# EAGLE library part 736-316 (library con-wago_736)
Serie 736, Doppelstock-Klemmenleiste für Leiterplatten 2 Lötstifte in Reihe / Series 736, Double-deck PCB terminal strip 2 solder pins, in line Polzahl / Pole No.: 16 Rastermaß / Pitch: 5.08 mm Bemessungsspannung / Rated Voltage: 320 V Nennstrom / Nominal Current: 21 A Leiterquerschnitt / Conductor Size: 0.08 - 2.5 mm² Anschlusstechnik / Connection Technology: CAGE CLAMP® Lötstiftlänge: / Solder Pin Length: 4 mm Leitereinführung (zur Platine) / Conductor entry angle (to PCB): 45 ° Farbe / Color: orange / orange Stand: 01.01.2012. Die jeweils aktuellen Daten zu diesem Artikel finden Sie in unserem Produktkatalog, den Sie unter www.wago.com einsehen können. As of: 01/01/2012. Please find the newest data for this article in our product catalogue, which can be viewed under www.wago.com.
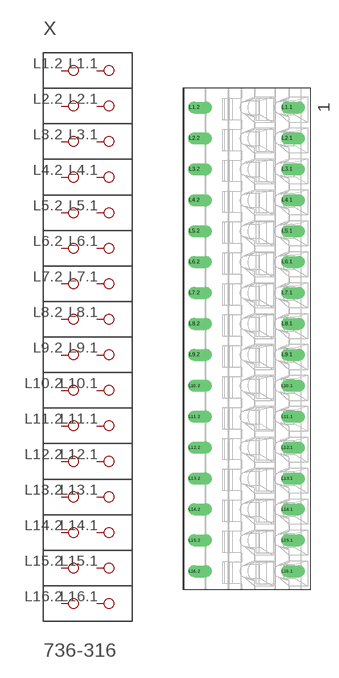
[diagram p41: symbol with the pads of P-736-316; footprint P-736-316]

Designator prefix X

## 736-316  [P-736-316]
L1.1  P1.1
L1.2  P1.2
L2.1  P2.1
L2.2  P2.2
L3.1  P3.1
L3.2  P3.2
L4.1  P4.1
L4.2  P4.2
L5.1  P5.1
L5.2  P5.2
L6.1  P6.1
L6.2  P6.2
L7.1  P7.1
L7.2  P7.2
L8.1  P8.1
L8.2  P8.2
L9.1  P9.1
L9.2  P9.2
L10.1  P10.1
L10.2  P10.2
L11.1  P11.1
L11.2  P11.2
L12.1  P12.1
L12.2  P12.2
L13.1  P13.1
L13.2  P13.2
L14.1  P14.1
L14.2  P14.2
L15.1  P15.1
L15.2  P15.2
L16.1  P16.1
L16.2  P16.2

## Footprint P-736-316 (pad centres in mm)
drill 1.3 offset: L1.1 6.64,38.01; L1.2 -8.6,38.01; L2.1 6.64,32.93; L2.2 -8.6,32.93; L3.1 6.64,27.85; L3.2 -8.6,27.85; L4.1 6.64,22.77; L4.2 -8.6,22.77; L5.1 6.64,17.69; L5.2 -8.6,17.69; L6.1 6.64,12.61; L6.2 -8.6,12.61; L7.1 6.64,7.53; L7.2 -8.6,7.53; L8.1 6.64,2.45; L8.2 -8.6,2.45; L9.1 6.64,-2.63; L9.2 -8.6,-2.63; L10.1 6.64,-7.71; L10.2 -8.6,-7.71; L11.1 6.64,-12.79; L11.2 -8.6,-12.79; L12.1 6.64,-17.87; L12.2 -8.6,-17.87; L13.1 6.64,-22.95; L13.2 -8.6,-22.95; L14.1 6.64,-28.03; L14.2 -8.6,-28.03; L15.1 6.64,-33.11; L15.2 -8.6,-33.11; L16.1 6.64,-38.19; L16.2 -8.6,-38.19